# Altium footprint library DIP直插芯片.PcbLib: 16 footprints
Each footprint in its own frame and in the unit in brackets; x right, y up, seen from the top. Pads: shape width x height; smd on the part's side, far side on the other; paste and mask are expansions set on the pad; w line width, h text height; cw(c..) or ccw(c..) is an arc to the next point about the centre after c.
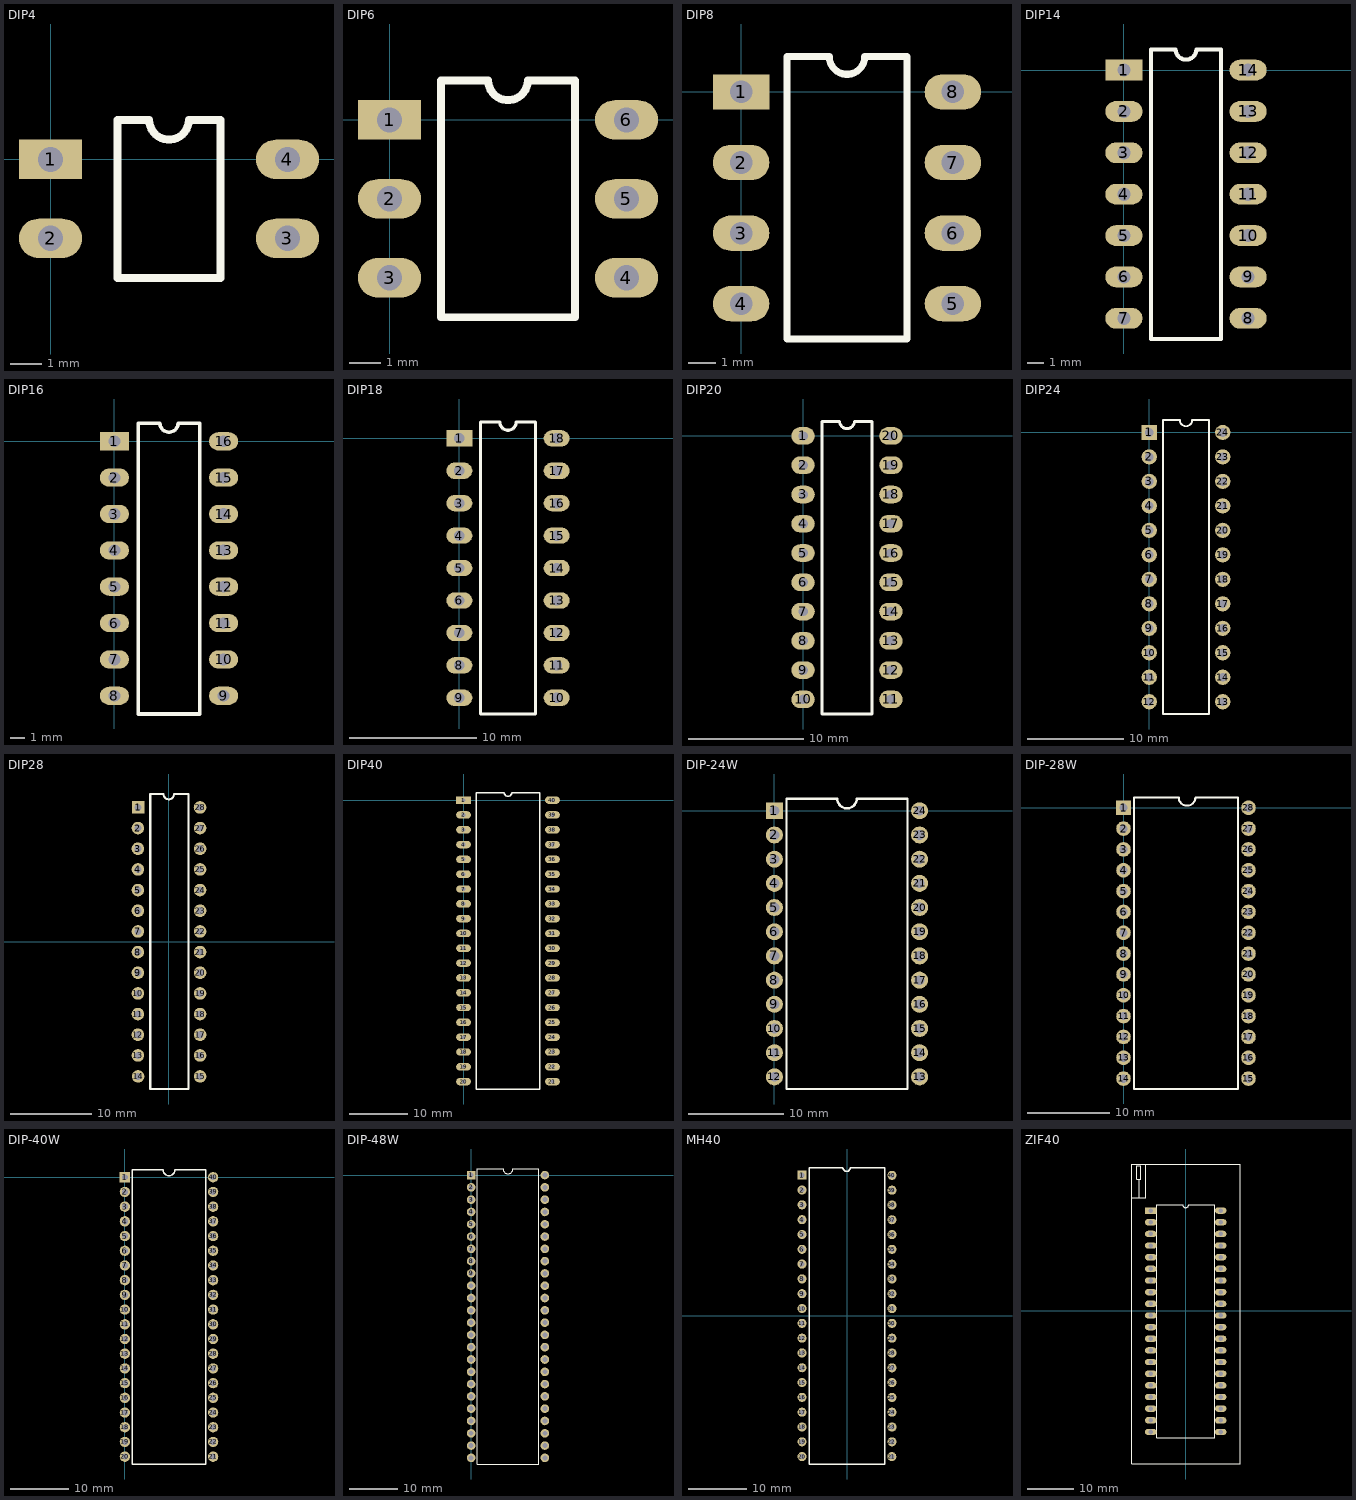
[diagram p0: the footprints below, top view; thin cyan lines are the x and y axes]

## DIP4 [mil] "4脚300mil直插集成电路（蒜米工坊）"
pads (4):
  rect 80x50 hole 32: 1(0,0)
  oval 80x50 hole 32: 2(0,-100) 3(300,-100) 4(300,0)
Top Overlay:
  lines w10: 85,-150 85,50 125,50 ccw(c150,50) 175,50 215,50 215,-150 85,-150
3D body "DIP4.STEP": height 169.69, standoff -129.13, extent -7.48,-158.11 307.48,60

## DIP6 [mil] "6脚300mil直插集成电路（蒜米工坊）"
pads (6):
  rect 80x50 hole 32: 1(0,0)
  oval 80x50 hole 32: 2(0,-100) 3(0,-200) 4(300,-200) 5(300,-100) 6(300,0)
Top Overlay:
  lines w10: 65,-250 65,50 125,50 ccw(c150,50) 175,50 235,50 235,-250 65,-250
3D body "DIP6.STEP": height 169.69, standoff -129.13, extent -7.48,-258.11 307.48,60

## DIP8 [mil] "8脚300mil直插集成电路（蒜米工坊）"
pads (8):
  rect 80x50 hole 32: 1(0,0)
  oval 80x50 hole 32: 2(0,-100) 3(0,-200) 4(0,-300) 5(300,-300) 6(300,-200) 7(300,-100) 8(300,0)
Top Overlay:
  lines w10: 65,-350 235,-350 235,50 175,50 cw(c150,50) 125,50 65,50 65,-350
3D body "DIP8.STEP": height 177.17, standoff -137.8, extent -2.76,-362.6 302.77,62.6

## DIP14 [mil] "14脚300mil直插集成电路（蒜米工坊）"
pads (14):
  rect 90x50 hole 32: 1(0,0)
  oval 90x50 hole 32: 2(0,-100) 3(0,-200) 4(0,-300) 5(0,-400) 6(0,-500) 7(0,-600) 8(300,-600) 9(300,-500) 10(300,-400) 11(300,-300) 12(300,-200) 13(300,-100) 14(300,0)
Top Overlay:
  lines w10: 65,-650 65,50 125,50 ccw(c150,50) 175,50 235,50 235,-650 65,-650
3D body "DIP14.STEP": height 179.92, standoff -150, extent 0,-682.48 307.87,82.48

## DIP16 [mil] "16脚300mil直插集成电路（蒜米工坊）"
pads (16):
  rect 80x50 hole 32: 1(0,0)
  oval 80x50 hole 32: 2(0,-100) 3(0,-200) 4(0,-300) 5(0,-400) 6(0,-500) 7(0,-600) 8(0,-700) 9(300,-700) 10(300,-600) 11(300,-500) 12(300,-400) 13(300,-300) 14(300,-200) 15(300,-100) 16(300,0)
Top Overlay:
  lines w10: 65,-750 65,50 125,50 ccw(c150,50) 175,50 235,50 235,-750 65,-750
3D body "DIP16.STEP": height 179.92, standoff -150, extent -7.87,-732.48 300,32.48

## DIP18 [mil] "18脚300mil直插集成电路（蒜米工坊）"
pads (18):
  rect 80x50 hole 32: 1(0,0)
  oval 80x50 hole 32: 2(0,-100) 3(0,-200) 4(0,-300) 5(0,-400) 6(0,-500) 7(0,-600) 8(0,-700) 9(0,-800) 10(300,-800) 11(300,-700) 12(300,-600) 13(300,-500) 14(300,-400) 15(300,-300) 16(300,-200) 17(300,-100) 18(300,0)
Top Overlay:
  lines w10: 65,-850 235,-850 235,50 175,50 cw(c150,50) 125,50 65,50 65,-850
3D body "DIP18.STEP": height 179.92, standoff -150, extent 1.06,-857.48 308.93,57.48

## DIP20 [mil] "20脚300mil直插集成电路（蒜米工坊）"
pads (20):
  oval 80x60 hole 32: 1(0,0) 2(0,-100) 3(0,-200) 4(0,-300) 5(0,-400) 6(0,-500) 7(0,-600) 8(0,-700) 9(0,-800) 10(0,-900) 11(300,-900) 12(300,-800) 13(300,-700) 14(300,-600) 15(300,-500) 16(300,-400) 17(300,-300) 18(300,-200) 19(300,-100) 20(300,0)
Top Overlay:
  lines w10: 65,-950 65,50 125,50 ccw(c150,50) 175,50 235,50 235,-950 65,-950
3D body "DIP20.step": height 177.17, standoff -137.8, extent -7.77,-948.93 297.76,58.94

## DIP24 [mil] "24脚300mil直插集成电路（蒜米工坊）"
pads (24):
  rect 62x62 hole 36: 1(0,0)
  round 62 hole 36: 2(0,-100) 3(0,-200) 4(0,-300) 5(0,-400) 6(0,-500) 7(0,-600) 8(0,-700) 9(0,-800) 10(0,-900) 11(0,-1000) 12(0,-1100) 13(300,-1100) 14(300,-1000) 15(300,-900) 16(300,-800) 17(300,-700) 18(300,-600) 19(300,-500) 20(300,-400) 21(300,-300) 22(300,-200) 23(300,-100) 24(300,0)
Top Overlay:
  lines w7.87: 56.5,-1150 56.5,50 125,50 ccw(c150,50) 175,50 243.5,50 243.5,-1150 56.5,-1150
3D body "DIP24.STEP": height 179.92, standoff -150, extent -3.94,-1182.48 303.94,82.48

## DIP28 [mil] "28脚300mil直插集成电路（蒜米工坊）"
pads (28):
  rect 61x61 hole 35: 1(-149.24,650.1)
  round 61 hole 35: 2(-150.36,550.19) 3(-150.36,450.29) 4(-150.36,350.39) 5(-150.36,250.48) 6(-150.36,150.58) 7(-150.36,50.68) 8(-150.36,-49.23) 9(-150.36,-149.13) 10(-150.36,-249.04) 11(-150.36,-348.94) 12(-150.36,-448.84) 13(-150.36,-548.75) 14(-149.24,-650.1) 15(150.36,-650.1) 16(150.36,-548.75) 17(150.36,-448.84) 18(150.36,-348.94) 19(150.36,-249.04) 20(150.36,-149.13) 21(150.36,-49.23) 22(150.36,50.68) 23(150.36,150.58) 24(150.36,250.48) 25(150.36,350.39) 26(150.36,450.29) 27(150.36,550.19) 28(149.97,650.1)
Top Overlay:
  lines w10: -26.21,714.29 -90.63,714.29 -90.63,-711.12 93.87,-711.12 93.87,715.28 24.97,715.28 ; -26.01,714.08 ccw(c-1.01,714.08) 23.99,714.08
3D body "DIP28.STEP": height 179.92, standoff -150, extent -153.94,-689.96 153.93,689.97

## DIP40 [mil] "40脚300mil直插集成电路（蒜米工坊）"
pads (40):
  rect 100x50 hole 25: 1(0,0)
  oval 100x50 hole 25: 2(0,-100) 3(0,-200) 4(0,-300) 5(0,-400) 6(0,-500) 7(0,-600) 8(0,-700) 9(0,-800) 10(0,-900) 11(0,-1000) 12(0,-1100) 13(0,-1200) 14(0,-1300) 15(0,-1400) 16(0,-1500) 17(0,-1600) 18(0,-1700) 19(0,-1800) 20(0,-1900) 21(600,-1900) 22(600,-1800) 23(600,-1700) 24(600,-1600) 25(600,-1500) 26(600,-1400) 27(600,-1300) 28(600,-1200) 29(600,-1100) 30(600,-1000) 31(600,-900) 32(600,-800) 33(600,-700) 34(600,-600) 35(600,-500) 36(600,-400) 37(600,-300) 38(600,-200) 39(600,-100) 40(600,0)
Top Overlay:
  lines w10: 85,-1950 85,50 275,50 ccw(c300,50) 325,50 515,50 515,-1950 85,-1950
3D body "DIP40.STEP": height 224.41, standoff -101.57, extent -4.92,-1984.96 604.92,80

## DIP-24W [mil] "24脚600mil直插集成电路（蒜米工坊）"
pads (24):
  rect 70x70 hole 40: 1(0,0)
  round 70 hole 40: 2(0,-100) 3(0,-200) 4(0,-300) 5(0,-400) 6(0,-500) 7(0,-600) 8(0,-700) 9(0,-800) 10(0,-900) 11(0,-1000) 12(0,-1100) 13(600,-1100) 14(600,-1000) 15(600,-900) 16(600,-800) 17(600,-700) 18(600,-600) 19(600,-500) 20(600,-400) 21(600,-300) 22(600,-200) 23(600,-100) 24(600,0)
Top Overlay:
  lines w10: 50,-1150 550,-1150 550,50 340,50 cw(c300,50) 260,50 50,50 50,-1150
3D body "DIP24-W.STEP": height 200.39, standoff -150, extent -3.94,-1185.03 603.93,85.05

## DIP-28W [mil] "28脚600mil直插集成电路（蒜米DIY工坊）"
pads (28):
  rect 70x70 hole 40: 1(0,0)
  round 70 hole 40: 2(0,-100) 3(0,-200) 4(0,-300) 5(0,-400) 6(0,-500) 7(0,-600) 8(0,-700) 9(0,-800) 10(0,-900) 11(0,-1000) 12(0,-1100) 13(0,-1200) 14(0,-1300) 15(600,-1300) 16(600,-1200) 17(600,-1100) 18(600,-1000) 19(600,-900) 20(600,-800) 21(600,-700) 22(600,-600) 23(600,-500) 24(600,-400) 25(600,-300) 26(600,-200) 27(600,-100) 28(600,0)
Top Overlay:
  lines w10: 50,-1350 550,-1350 550,50 345,50 cw(c305,50) 265,50 50,50 50,-1350
3D body "DIP28-W.STEP": height 200.39, standoff -150, extent -3.94,-1385.04 603.93,85.04

## DIP-40W [mil] "40脚600mil直插集成电路（蒜米工坊）"
pads (40):
  rect 70x70 hole 40: 1(0,0)
  round 70 hole 40: 2(0,-100) 3(0,-200) 4(0,-300) 5(0,-400) 6(0,-500) 7(0,-600) 8(0,-700) 9(0,-800) 10(0,-900) 11(0,-1000) 12(0,-1100) 13(0,-1200) 14(0,-1300) 15(0,-1400) 16(0,-1500) 17(0,-1600) 18(0,-1700) 19(0,-1800) 20(0,-1900) 21(600,-1900) 22(600,-1800) 23(600,-1700) 24(600,-1600) 25(600,-1500) 26(600,-1400) 27(600,-1300) 28(600,-1200) 29(600,-1100) 30(600,-1000) 31(600,-900) 32(600,-800) 33(600,-700) 34(600,-600) 35(600,-500) 36(600,-400) 37(600,-300) 38(600,-200) 39(600,-100) 40(600,0)
Top Overlay:
  lines w10: 50,-1950 550,-1950 550,50 340,50 cw(c300,50) 260,50 50,50 50,-1950
3D body "DIP40-W.STEP": height 185.04, standoff -126.18, extent -6.29,-1980.57 606.3,80.57

## DIP-48W [mil] "48脚600mil直插集成电路（蒜米工坊）"
pads (48):
  rect 70x70 hole 40: 1(0,0)
  round 70 hole 40: 2(0,-100) 3(0,-200) 4(0,-300) 5(0,-400) 6(0,-500) 7(0,-600) 8(0,-700) 9(0,-800) 10(0,-900) 11(0,-1000) 12(0,-1100) 13(0,-1200) 14(0,-1300) 15(0,-1400) 16(0,-1500) 17(0,-1600) 18(0,-1700) 19(0,-1800) 20(0,-1900) 21(0,-2000) 22(0,-2100) 23(0,-2200) 24(0,-2300) 25(600,-2300) 26(600,-2200) 27(600,-2100) 28(600,-2000) 29(600,-1900) 30(600,-1800) 31(600,-1700) 32(600,-1600) 33(600,-1500) 34(600,-1400) 35(600,-1300) 36(600,-1200) 37(600,-1100) 38(600,-1000) 39(600,-900) 40(600,-800) 41(600,-700) 42(600,-600) 43(600,-500) 44(600,-400) 45(600,-300) 46(600,-200) 47(600,-100) 48(600,0)
Top Overlay:
  lines w10: 50,-2350 50,50 260,50 ccw(c300,50) 340,50 550,50 550,-2350 50,-2350
3D body "DIP48-W.STEP": height 185.04, standoff -125.98, extent -1.1,-2360.42 611.11,60.44

## MH40 [mil] "40脚600mil集成电路插座（蒜米工坊）"
pads (40):
  rect 61x61 hole 35: 1(-303.88,950.19)
  round 61 hole 35: 2(-303.62,850.17) 3(-303.62,750.15) 4(-303.62,650.13) 5(-303.62,550.11) 6(-303.62,450.09) 7(-303.62,350.07) 8(-303.62,250.05) 9(-303.62,150.03) 10(-303.62,50.01) 11(-303.62,-50.01) 12(-303.62,-150.03) 13(-303.62,-250.05) 14(-303.62,-350.07) 15(-303.62,-450.09) 16(-303.62,-550.11) 17(-303.62,-650.13) 18(-303.62,-750.15) 19(-303.62,-850.17) 20(-303.62,-950.19) 21(303.04,-950.19) 22(303.88,-850.21) 23(303.88,-750.23) 24(303.88,-650.25) 25(303.88,-550.28) 26(303.88,-450.3) 27(303.88,-350.32) 28(303.88,-250.34) 29(303.88,-150.36) 30(303.88,-50.39) 31(303.88,49.59) 32(303.88,149.57) 33(303.88,249.55) 34(303.88,349.53) 35(303.88,449.5) 36(303.88,549.48) 37(303.88,649.46) 38(303.88,749.44) 39(303.88,849.42) 40(303.88,949.39)
Top Overlay:
  lines w10: -254.04,-1000.19 253.88,-1000.19 253.88,1001.06 21.79,1001.06 cw(c-3.21,1001.06) -28.21,1001.06 -254.04,1001.06 -254.04,-1000.19
3D body "ZIF40-2.STEP": height 188.98, standoff -137.8, extent -347.92,-993.03 345,1003.03

## ZIF40 [mm] "40脚600mil直插集成电路扳手插座（蒜米工坊）"
pads (40):
  rect 2.5x1.38 hole 1: 1(-7.609,21.848)
  oval 2.5x1.38 hole 1: 2(-7.609,19.308) 3(-7.609,16.768) 4(-7.609,14.228) 5(-7.609,11.688) 6(-7.609,9.148) 7(-7.609,6.608) 8(-7.609,4.068) 9(-7.609,1.528) 10(-7.609,-1.012) 11(-7.609,-3.552) 12(-7.609,-6.092) 13(-7.609,-8.632) 14(-7.609,-11.172) 15(-7.609,-13.712) 16(-7.609,-16.252) 17(-7.609,-18.792) 18(-7.609,-21.332) 19(-7.609,-23.872) 20(-7.609,-26.412) 21(7.631,-26.412) 22(7.631,-23.872) 23(7.631,-21.332) 24(7.631,-18.792) 25(7.631,-16.252) 26(7.631,-13.712) 27(7.631,-11.172) 28(7.631,-8.632) 29(7.631,-6.092) 30(7.631,-3.552) 31(7.631,-1.012) 32(7.631,1.528) 33(7.631,4.068) 34(7.631,6.608) 35(7.631,9.148) 36(7.631,11.688) 37(7.631,14.228) 38(7.631,16.768) 39(7.631,19.308) 40(7.631,21.848)
Top Overlay:
  lines w0.254: -11.8,21.848 -11.8,32.008 11.949,32.008 11.949,21.848 11.949,-33.397 -9.006,-33.397 ; -11.8,22.61 -11.8,-33.397 -8.879,-33.397 ; -11.673,24.642 -8.752,24.642 -8.752,26.801 -8.752,32.008 ; -10.149,24.642 -10.149,28.706 ; -9.768,28.833 -9.768,28.706 ; -9.768,28.706 -9.768,31.627 -10.657,31.627 -10.657,28.706 -9.768,28.706 ; -6.339,-27.682 -6.339,23.118 -0.624,23.118 ccw(c0.011,23.118) 0.646,23.118 6.361,23.118 6.361,-27.682 -6.339,-27.682
3D body "ZIF-40.STEP": height 11, standoff -5, extent -12.309,-32.5 11.557,44.692